# EAGLE library part LM13600 (library ic)
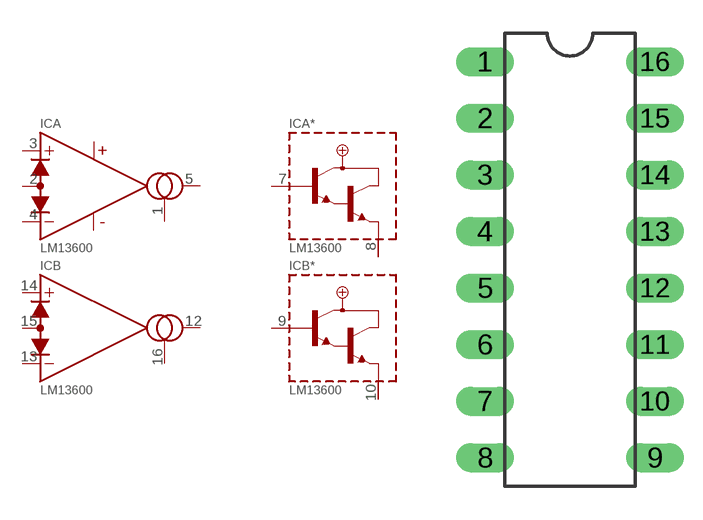
[diagram p32: symbol with the pads of DIL16; footprint DIL16]

Designator prefix IC; gates A=OTA B=OTA A*=OTABUF B*=OTABUF 5=PWR+-OTA

## LM13600  [DIL16]
1  A:AMP/BIAS  in
2  A:DIODE/BIAS  pas
3  A:+IN  in
4  A:-IN  in
5  A:OUT  out
6  5:V-  pwr
7  A*:BUFF/IN  in
8  A*:BUFF/OUT  out
9  B*:BUFF/IN  in
10  B*:BUFF/OUT  out
11  5:V+  pwr
12  B:OUT  out
13  B:-IN  in
14  B:+IN  in
15  B:DIODE/BIAS  pas
16  B:AMP/BIAS  in

## Footprint DIL16 (pad centres in mm)
drill 0.8 long: 1 -3.81,8.89; 2 -3.81,6.35; 3 -3.81,3.81; 4 -3.81,1.27; 5 -3.81,-1.27; 6 -3.81,-3.81; 7 -3.81,-6.35; 8 -3.81,-8.89; 9 3.81,-8.89; 10 3.81,-6.35; 11 3.81,-3.81; 12 3.81,-1.27; 13 3.81,1.27; 14 3.81,3.81; 15 3.81,6.35; 16 3.81,8.89